# Altium footprint library I2C_MB.PcbLib: 5 footprints
Each footprint in its own frame and in the unit in brackets; x right, y up, seen from the top. Pads: shape width x height; smd on the part's side, far side on the other; paste and mask are expansions set on the pad; w line width, h text height; cw(c..) or ccw(c..) is an arc to the next point about the centre after c.
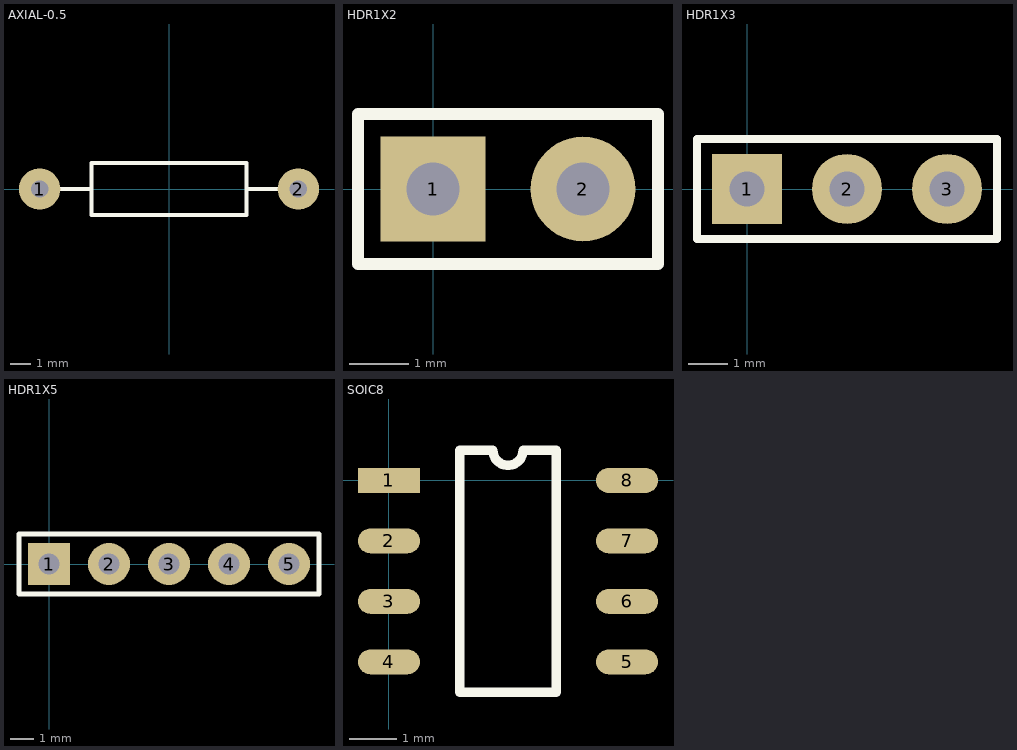
[diagram p0: the footprints below, top view; thin cyan lines are the x and y axes]

## AXIAL-0.5 [mil] "Axial Device, Thru-Hole; 2 Leads; 0.5 in Pin Spacing"
height 100
pads (2):
  round 80 hole 33.46: 1(-250,0) 2(250,0)
Top Overlay:
  lines w7.87: -210,0 -150,0 ; 150,0 210,0 ; -150,-50 150,-50 150,50 -150,50 -150,-50

## HDR1X2 [mil] "Connector; Header; 2 Position"
pads (2):
  rect 70x70 hole 35.43: 1(0,0)
  round 70 hole 35.43: 2(100,0)
Top Overlay:
  lines w7.87: -50,-50 -50,50 150,50 150,-50 -50,-50

## HDR1X3 [mil] "Connector; Header; 3 Position"
pads (3):
  rect 70x70 hole 35.43: 1(0,0)
  round 70 hole 35.43: 2(100,0) 3(200,0)
Top Overlay:
  lines w7.87: -50,-50 250,-50 250,50 -50,50 -50,-50

## HDR1X5 [mil] "Connector; Header; 5 Position"
pads (5):
  rect 70x70 hole 35.43: 1(0,0)
  round 70 hole 35.43: 2(100,0) 3(200,0) 4(300,0) 5(400,0)
Top Overlay:
  lines w7.87: -50,-50 -50,50 450,50 450,-50 -50,-50

## SOIC8 [mm]
pads (8):
  rect 1.3x0.52 smd: 1(0,0)
  oval 1.3x0.52 smd: 2(0,-1.27) 3(0,-2.54) 4(0,-3.81) 5(5,-3.81) 6(5,-2.54) 7(5,-1.27) 8(5,0)
Top Overlay:
  lines w0.2: 1.485,-4.445 1.485,0.635 2.183,0.635 ccw(c2.5,0.635) 2.818,0.635 3.515,0.635 3.515,-4.445 1.485,-4.445